# Altium schematic symbol library SCH - PASSIVES - POTENTIOMETER wLED.SCHLIB: 1 symbol
Pins are listed as number, name and electrical type; pins without a type are passive.

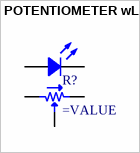
[diagram p0: symbol POTENTIOMETER wLED]

## POTENTIOMETER wLED
designator R?
Potentiometer
pins: 1, 2, 3, B, E